# Altium schematic symbol library BFR93A.SchLib: 1 symbol
Pins are listed as number, name and electrical type; pins without a type are passive.

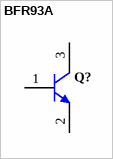
[diagram p0: symbol BFR93A]

## BFR93A
designator Q?
NPN Silicon RF Transistor, 12 V VCEO, 90 mA IC, 14.5 dB Gmax, SOT23, Green; Manufacturer: Infineon; PartNumber: BFR93A; Gmax (typ): 14.5 dB; Green: yes; Group: For low frequencies, e.g. VHF/UHF; IC (max): 90 mA; NFmin (typ): 1.5 dB; Ptot (max): 300.0mW; VCEO (max): 12 V; DatasheetVersion: Aug-2012; PackageReference: SOT23; PackageDescription: 3-Pin Small Outline Transistor Package, 1.3 x 2.9 mm Body, 0.95 mm Pitch; Mounting Technology: Surface Mount; ComponentLink1Description: Manufacturer URL; ComponentLink1URL: http://www.infineon.com/; ComponentLink2Description: Datasheet; ComponentLink2URL: http://www.infineon.com/dgdl/bfr93a.pdf?folderId=db3a30431400ef68011425b1354605c1&fileId=db3a30431400ef6801142702189806ae&location=en.Products.RF.RF_Transistors_.High_Linearity_Si-_and_SiGe_C-Transistors_for_use_up_to_6_GHz.DATASHEET.bfr93a.pdf; ComponentLink3Description: Package Specification; ComponentLink3URL: http://www.infineon.com/dgdl/SOT23-Package_Overview.pdf?folderId=db3a30431936bc4b0119532290053c66&fileId=db3a30431936bc4b0119533468123c85
footprint INF-SOT23_N (SOT23, 3-Leads, Body 2.9x1.3 mm, Pitch 0.95 mm, IPC Medium Density)
footprint INF-SOT23_L (SOT23, 3-Leads, Body 2.9x1.3 mm, Pitch 0.95 mm, IPC High Density)
footprint INF-SOT23_M (SOT23, 3-Leads, Body 2.9x1.3 mm, Pitch 0.95 mm, IPC Low Density)
pins: 1 B, 2 E, 3 C